# Altium schematic symbol library My_Connectors.SchLib: 2 symbols
Pins are listed as number, name and electrical type; pins without a type are passive.

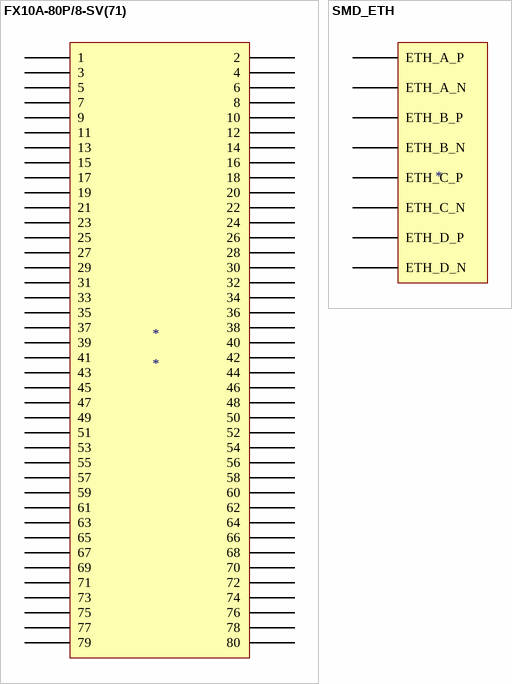
[diagram p0: symbols FX10A-80P/8-SV(71) to SMD_ETH]

## FX10A-80P/8-SV(71)
designator *
footprint FX10A-80P/8-SV(71)
pins: 180 2, 180 1, 180 4, 180 3, 180 6, 180 5, 180 8, 180 7, 180 10, 180 9, 180 12, 180 11, 180 14, 180 13, 180 16, 180 15, 180 18, 180 17, 180 20, 180 19, 180 22, 180 21, 180 24, 180 23, 180 26, 180 25, 180 28, 180 27, 180 30, 180 29, 180 32, 180 31, 180 34, 180 33, 180 36, 180 35, 180 38, 180 37, 180 40, 180 39, 180 42, 180 41, 180 44, 180 43, 180 46, 180 45, 180 48, 180 47, 180 50, 180 49, 180 52, 180 51, 180 54, 180 53, 180 56, 180 55, 180 58, 180 57, 180 60, 180 59, 180 62, 180 61, 180 64, 180 63, 180 66, 180 65, 180 68, 180 67, 180 70, 180 69, 180 72, 180 71, 180 74, 180 73, 180 76, 180 75, 180 78, 180 77, 180 80, 180 79

## SMD_ETH
designator ?
SMD_ETH
footprint SMD_ETH
pins: 177 ETH_A_P, 177 ETH_A_N, 177 ETH_B_P, 177 ETH_B_N, 177 ETH_C_P, 177 ETH_C_N, 177 ETH_D_P, 177 ETH_D_N